# Altium schematic symbol library ABS25.SchLib: 1 symbol
Pins are listed as number, name and electrical type; pins without a type are passive.

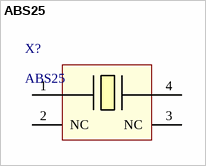
[diagram p0: symbol ABS25]

## ABS25
designator X?
pins: 1, 2 NC, 3 NC, 4